# Altium footprint library parts.PCBLIB: 34 footprints (part 1 of 3)
Each footprint in its own frame and in the unit in brackets; x right, y up, seen from the top. Pads: shape width x height; smd on the part's side, far side on the other; paste and mask are expansions set on the pad; w line width, h text height; cw(c..) or ccw(c..) is an arc to the next point about the centre after c.
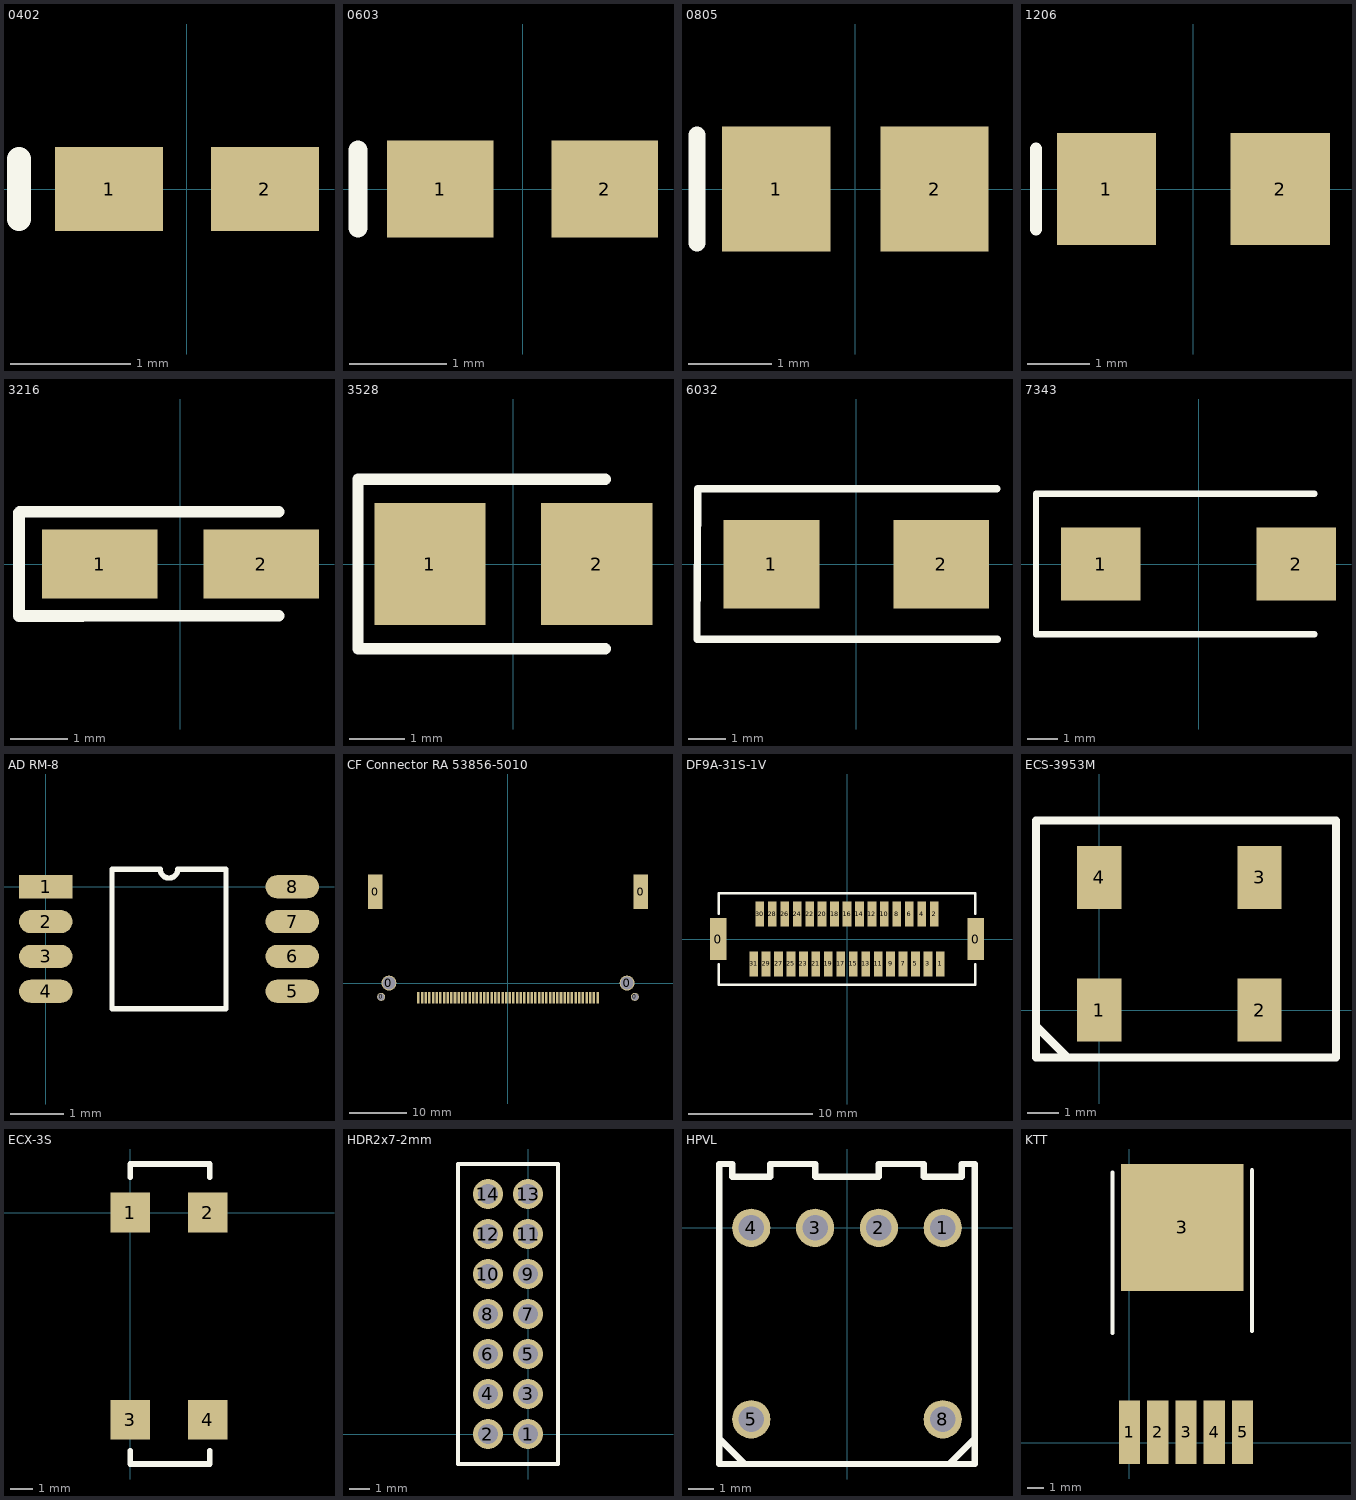
[diagram p0: the footprints below, top view; thin cyan lines are the x and y axes]

## 0402 [mm] "Standard-sized 0402 Passive"
pads (2):
  rect 0.9x0.7 smd: 1(-0.65,0) 2(0.65,0)
Top Overlay:
  lines w0.2: -1.4,-0.25 -1.4,0.25

## 0603 [mm] "Standard-sized 0603 Passive"
pads (2):
  rect 1.1x1 smd: 1(-0.85,0) 2(0.85,0)
Top Overlay:
  lines w0.2: -1.7,-0.4 -1.7,0.4

## 0805 [mm] "Standard-sized 0805 Passive"
pads (2):
  rect 1.3x1.5 smd: 1(-0.95,0) 2(0.95,0)
Top Overlay:
  lines w0.2: -1.9,-0.65 -1.9,0.65

## 1206 [mm] "Standard-sized 1206 Passive"
pads (2):
  rect 1.6x1.8 smd: 1(-1.4,0) 2(1.4,0)
Top Overlay:
  lines w0.2: -2.535,-0.65 -2.535,0.65

## 3216 [mm] "Standard-Sized 3216 Polarized Leadless Cap"
pads (2):
  rect 2x1.2 smd: 1(-1.4,0) 2(1.4,0)
Top Overlay:
  lines w0.2: -2.782,0.901 1.7,0.901 ; -1.7,-0.899 1.7,-0.899
  lines w0.203: -2.794,-0.899 -1.7,-0.899 ; -2.794,-0.889 -2.794,0.889 -2.782,0.901

## 3528 [mm] "Standard-Sized 3528 Polarized Leadless Cap"
pads (2):
  rect 2x2.2 smd: 1(-1.5,0) 2(1.5,0)
Top Overlay:
  lines w0.203: -2.794,-1.524 1.651,-1.524 ; -2.794,-1.5 -2.794,1.5 ; -2.794,1.524 1.651,1.524

## 6032 [mm] "Standard-Sized 7343 Polarized Leadless Cap"
pads (2):
  rect 2.6x2.4 smd: 1(-2.3,0) 2(2.3,0)
Top Overlay:
  lines w0.203: -4.318,-2.032 -4.304,2.046 3.8,2.046 ; -4.294,-2.032 3.81,-2.032

## 7343 [mm] "Standard-Sized 7343 Polarized Leadless Cap"
pads (2):
  rect 2.6x2.4 smd: 1(-3.2,0) 2(3.2,0)
Top Overlay:
  lines w0.203: 3.8,-2.3 -5.32,-2.3 -5.32,2.3 3.8,2.3

## AD RM-8 [mm]
pads (8):
  rect 1x0.432 smd: 1(0,0)
  oval 1x0.432 smd: 2(0,-0.65) 3(0,-1.3) 4(0,-1.95) 5(4.6,-1.95) 6(4.6,-1.3) 7(4.6,-0.65) 8(4.6,0)
Top Overlay:
  lines w0.1: 1.235,-2.275 3.365,-2.275 3.365,0.325 2.462,0.325 cw(c2.3,0.325) 2.138,0.325 1.235,0.325 1.235,-2.275

## CF Connector RA 53856-5010 [mm] "Molex CF connector, 53856-5010"
pads (56):
  rect 2.5x6 smd: 0(-23.065,15.9) 0(23.065,15.9)
  round 1.4 hole 1.2: 0(-22.035,-2.4) 0(22.035,-2.4)
  round 2.6 hole 2.3: 0(-20.685,0) 0(20.685,0)
  rect 0.44x2 smd: 1(15.557,-2.6) 2(14.287,-2.6) 3(13.018,-2.6) 4(11.747,-2.6) 5(10.477,-2.6) 6(9.207,-2.6) 7(7.938,-2.6) 8(6.667,-2.6) 9(5.397,-2.6) 10(4.127,-2.6) 11(2.857,-2.6) 12(1.587,-2.6) 13(0.318,-2.6) 14(-0.953,-2.6) 15(-2.222,-2.6) 16(-3.492,-2.6) 17(-4.763,-2.6) 18(-6.032,-2.6) 19(-7.302,-2.6) 20(-8.572,-2.6) 21(-9.842,-2.6) 22(-11.112,-2.6) 23(-12.383,-2.6) 24(-13.652,-2.6) 25(-14.922,-2.6) 26(14.922,-2.6) 27(13.652,-2.6) 28(12.383,-2.6) 29(11.112,-2.6) 30(9.842,-2.6) 31(8.572,-2.6) 32(7.302,-2.6) 33(6.032,-2.6) 34(4.763,-2.6) 35(3.492,-2.6) 36(2.222,-2.6) 37(0.953,-2.6) 38(-0.318,-2.6) 39(-1.587,-2.6) 40(-2.857,-2.6) 41(-4.127,-2.6) 42(-5.397,-2.6) 43(-6.667,-2.6) 44(-7.938,-2.6) 45(-9.207,-2.6) 46(-10.477,-2.6) 47(-11.747,-2.6) 48(-13.018,-2.6) 49(-14.287,-2.6) 50(-15.557,-2.6)

## DF9A-31S-1V [mm] "Hirose 31-pin receptacle"
pads (33):
  rect 1.3x3.4 smd: 0(-10.35,0) 0(10.35,0)
  rect 0.7x2 smd: 1(7.5,-2) 2(7,2) 3(6.5,-2) 4(6,2) 5(5.5,-2) 6(5,2) 7(4.5,-2) 8(4,2) 9(3.5,-2) 10(3,2) 11(2.5,-2) 12(2,2) 13(1.5,-2) 14(1,2) 15(0.5,-2) 16(0,2) 17(-0.5,-2) 18(-1,2) 19(-1.5,-2) 20(-2,2) 21(-2.5,-2) 22(-3,2) 23(-3.5,-2) 24(-4,2) 25(-4.5,-2) 26(-5,2) 27(-5.5,-2) 28(-6,2) 29(-6.5,-2) 30(-7,2) 31(-7.5,-2)
Top Overlay:
  lines w0.203: -10.287,-2.032 -10.287,-3.683 10.287,-3.683 10.287,-2.032 ; -10.287,2.032 -10.287,3.683 10.287,3.683 10.287,2.032

## ECS-3953M [mm] "ECS SMD CLOCK OSCILLATOR"
pads (4):
  rect 1.4x2 smd: 1(0,0) 2(5.08,0) 3(5.08,4.2) 4(0,4.2)
Top Overlay:
  lines w0.254: -2,-0.5 -1,-1.5 ; -2,-1.5 7.5,-1.5 7.5,6 -2,6 -2,-1.5

## ECX-3S [mm]
pads (4):
  rect 1.8x1.8 smd: 1(0,0) 2(3.5,0) 3(0,-9.4) 4(3.5,-9.4)
Top Overlay:
  lines w0.254: 0,-10.8 0,-11.4 3.6,-11.4 3.6,-10.8 ; 0,1.6 0,2.2 3.4,2.2 3.6,2.2 3.6,1.8 3.6,1.6

## HDR2x7-2mm [mm]
pads (14):
  round 1.5 hole 1: 1(0,0) 2(-2,0) 3(0,2) 4(-2,2) 5(0,4) 6(-2,4) 7(0,6) 8(-2,6) 9(0,8) 10(-2,8) 11(0,10) 12(-2,10) 13(0,12) 14(-2,12)
Top Overlay:
  lines w0.2: -3.5,-1.5 1.5,-1.5 1.5,13.5 -3.5,13.5 -3.5,-1.5

## HPVL [mil]
pads (6):
  round 60 hole 40: 1(150,0) 2(50,0) 3(-50,0) 4(-150,0) 5(-150,-300) 8(150,-300)
Top Overlay:
  lines w10: -200,-340 -200,0 ; -200,-330 -160,-370 ; -200,-300 -200,-370 200,-370 200,-340 200,0 200,100 180,100 180,80 120,80 120,100 50,100 50,80 -50,80 -50,100 -120,100 -120,80 -180,80 -180,100 -200,100 -200,-10 ; 160,-370 200,-330

## KTT [mil] "TI DDPAK-5"
pads (6):
  rect 50x150 smd: 1(0,25) 2(67,25) 3(134,25) 4(201,25) 5(268,25)
  rect 290x300 smd: 3(125,510)
Top Overlay:
  lines w10: -40,260 -40,640 ; 290,265 290,645